# EAGLE library part ATTINY88 (library pimoroni-ics)
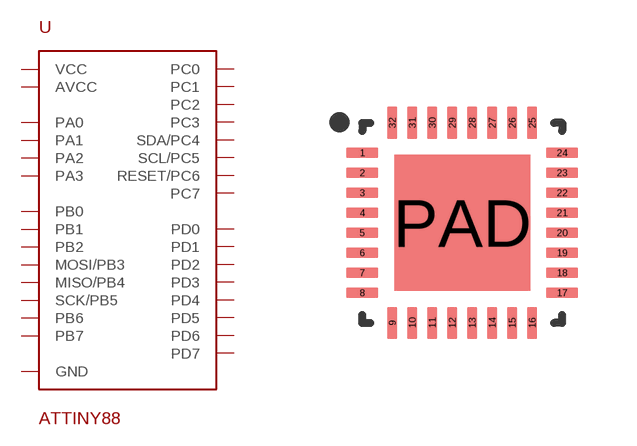
[diagram p13: symbol with the pads of QFN-32; footprint QFN-32]

Designator prefix -

## ATTINY88  [QFN-32]
1  PD3
2  PD4
3  PA2
4  VCC
5  GND
6  PA3
7  PB6
8  PB7
9  PD5
10  PD6
11  PD7
12  PB0
13  PB1
14  PB2
15  MOSI/PB3
16  MISO/PB4
17  SCK/PB5
18  AVCC
19  PA0
20  PC7
21  GND
22  PA1
23  PC0
24  PC1
25  PC2
26  PC3
27  SDA/PC4
28  SCL/PC5
29  RESET/PC6
30  PD0
31  PD1
32  PD2
PAD  GND

## Footprint QFN-32 (pad centres in mm)
smd 0.8 x 0.25: 1 -2.5,1.75; 2 -2.5,1.25; 3 -2.5,0.75; 4 -2.5,0.25; 5 -2.5,-0.25; 6 -2.5,-0.75; 7 -2.5,-1.25; 8 -2.5,-1.75; 17 2.5,-1.75; 18 2.5,-1.25; 19 2.5,-0.75; 20 2.5,-0.25; 21 2.5,0.25; 22 2.5,0.75; 23 2.5,1.25; 24 2.5,1.75
smd 0.25 x 0.8: 9 -1.75,-2.5; 10 -1.25,-2.5; 11 -0.75,-2.5; 12 -0.25,-2.5; 13 0.25,-2.5; 14 0.75,-2.5; 15 1.25,-2.5; 16 1.75,-2.5; 25 1.75,2.5; 26 1.25,2.5; 27 0.75,2.5; 28 0.25,2.5; 29 -0.25,2.5; 30 -0.75,2.5; 31 -1.25,2.5; 32 -1.75,2.5
smd 3.4 x 3.4: PAD 0,0